# Altium integrated library Resistor - Current Sense.IntLib: 810 symbols (part 8 of 12)
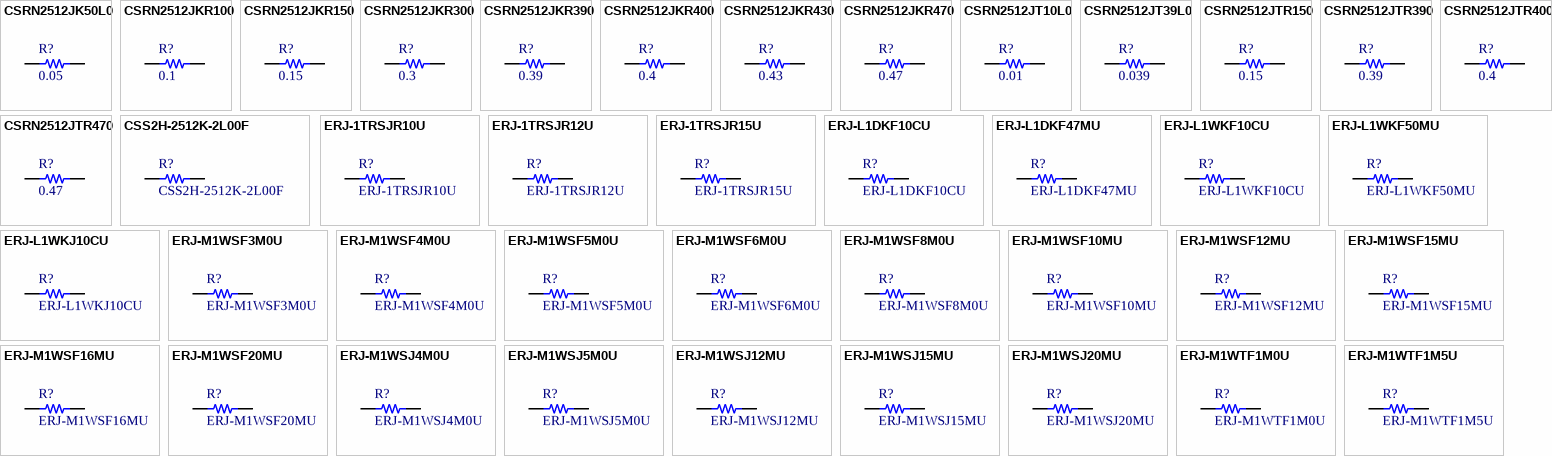
[diagram p27: symbols CSRN2512JK50L0 to ERJ-M1WTF1M5U]

## ERJ-L1DKF10CU
designator R?
RES SMD 0.1 OHM 1% 1/2W 2010; Manufacturer: Panasonic Electronic Components; Value: 0.1; TemperatureRange: -55C ~ 125C; TemperatureCoefficient: 100ppm/C; PowerRating: 0.5W, 1/2W; Part Number: ERJ-L1DKF10CU; PartId: 21562; Supplier 1: Digi-Key; Supplier Part Number 1: P100NCTR-ND; ComponentLink1Description: Datasheet; ComponentLink1URL: https://industrial.panasonic.com/cdbs/www-data/pdf/RDA0000/AOA0000C239.pdf; ComponentLink2Description: Digi-Key Listing; ComponentLink2URL: https://www.digikey.com/product-detail/en/panasonic-electronic-components/ERJ-L1DKF10CU/P100NCTR-ND/469565; Tolerance: 1%; Price: 0.2033; Device Package: 2010 (5025 Metric)
footprint STACKPOLE CSR2010
pins: 1, 2

## ERJ-L1DKF47MU
designator R?
RES SMD 0.047 OHM 1% 1/2W 2010; Manufacturer: Panasonic Electronic Components; Value: 0.047; TemperatureRange: -55C ~ 125C; TemperatureCoefficient: 100ppm/C; PowerRating: 0.5W, 1/2W; Part Number: ERJ-L1DKF47MU; PartId: 21563; Supplier 1: Digi-Key; Supplier Part Number 1: P47NCTR-ND; ComponentLink1Description: Datasheet; ComponentLink1URL: https://industrial.panasonic.com/cdbs/www-data/pdf/RDA0000/AOA0000C239.pdf; ComponentLink2Description: Digi-Key Listing; ComponentLink2URL: https://www.digikey.com/product-detail/en/panasonic-electronic-components/ERJ-L1DKF47MU/P47NCTR-ND/469563; Tolerance: 1%; Price: 0.2033; Device Package: 2010 (5025 Metric)
footprint STACKPOLE CSR2010
pins: 1, 2

## ERJ-L1WKF10CU
designator R?
RES SMD 0.1 OHM 1% 1W 2512; Manufacturer: Panasonic Electronic Components; Value: 0.1; TemperatureRange: -55C ~ 125C; TemperatureCoefficient: 100ppm/C; Part Number: ERJ-L1WKF10CU; PartId: 21441; Supplier 1: Digi-Key; Supplier Part Number 1: P100MTR-ND; ComponentLink1Description: Datasheet; ComponentLink1URL: https://industrial.panasonic.com/cdbs/www-data/pdf/RDA0000/AOA0000C239.pdf; ComponentLink2Description: Digi-Key Listing; ComponentLink2URL: https://www.digikey.com/product-detail/en/panasonic-electronic-components/ERJ-L1WKF10CU/P100MTR-ND/272496; Tolerance: 1%; PowerRating: 1W; Price: 0.2764; Device Package: 2512 (6432 Metric)
footprint STACKPOLE CSR2512
pins: 1, 2

## ERJ-L1WKF50MU
designator R?
RES SMD 0.05 OHM 1% 1W 2512; Manufacturer: Panasonic Electronic Components; Value: 0.05; TemperatureRange: -55C ~ 125C; TemperatureCoefficient: 100ppm/C; Part Number: ERJ-L1WKF50MU; PartId: 21442; Supplier 1: Digi-Key; Supplier Part Number 1: P50MTR-ND; ComponentLink1Description: Datasheet; ComponentLink1URL: https://industrial.panasonic.com/cdbs/www-data/pdf/RDA0000/AOA0000C239.pdf; ComponentLink2Description: Digi-Key Listing; ComponentLink2URL: https://www.digikey.com/product-detail/en/panasonic-electronic-components/ERJ-L1WKF50MU/P50MTR-ND/272495; Tolerance: 1%; PowerRating: 1W; Price: 0.2764; Device Package: 2512 (6432 Metric)
footprint STACKPOLE CSR2512
pins: 1, 2

## ERJ-L1WKJ10CU
designator R?
RES SMD 0.1 OHM 5% 1W 2512; Manufacturer: Panasonic Electronic Components; Value: 0.1; TemperatureRange: -55C ~ 125C; TemperatureCoefficient: 100ppm/C; Part Number: ERJ-L1WKJ10CU; PartId: 21427; Supplier 1: Digi-Key; Supplier Part Number 1: P100TTR-ND; ComponentLink1Description: Datasheet; ComponentLink1URL: https://industrial.panasonic.com/cdbs/www-data/pdf/RDA0000/AOA0000C239.pdf; ComponentLink2Description: Digi-Key Listing; ComponentLink2URL: https://www.digikey.com/product-detail/en/panasonic-electronic-components/ERJ-L1WKJ10CU/P100TTR-ND/272489; Tolerance: 5%; PowerRating: 1W; Price: 0.2362; Device Package: 2512 (6432 Metric)
footprint STACKPOLE CSR2512
pins: 1, 2

## ERJ-M1WSF3M0U
designator R?
RES SMD 0.003 OHM 1% 1W 2512; Manufacturer: Panasonic Electronic Components; Value: 0.003; TemperatureRange: -55C ~ 170C; TemperatureCoefficient: 350ppm/C; Part Number: ERJ-M1WSF3M0U; PartId: 21285; Supplier 1: Digi-Key; Supplier Part Number 1: P3.0MTR-ND; ComponentLink1Description: Datasheet; ComponentLink1URL: http://industrial.panasonic.com/www-cgi/jvcr13pz.cgi?E+PZ+3+AOA0007+ERJM1WSF3M0U+7+WW; ComponentLink2Description: Digi-Key Listing; ComponentLink2URL: https://www.digikey.com/product-detail/en/panasonic-electronic-components/ERJ-M1WSF3M0U/P3.0MTR-ND/300450; Tolerance: 1%; PowerRating: 1W; Price: 0.138; Device Package: 2512 (6432 Metric)
footprint STACKPOLE CSR2512
pins: 1, 2

## ERJ-M1WSF4M0U
designator R?
RES SMD 0.004 OHM 1% 1W 2512; Manufacturer: Panasonic Electronic Components; Value: 0.004; TemperatureRange: -55C ~ 170C; TemperatureCoefficient: 350ppm/C; Part Number: ERJ-M1WSF4M0U; PartId: 21284; Supplier 1: Digi-Key; Supplier Part Number 1: P4.0MTR-ND; ComponentLink1Description: Datasheet; ComponentLink1URL: http://industrial.panasonic.com/www-cgi/jvcr13pz.cgi?E+PZ+3+AOA0007+ERJM1WSF4M0U+7+WW; ComponentLink2Description: Digi-Key Listing; ComponentLink2URL: https://www.digikey.com/product-detail/en/panasonic-electronic-components/ERJ-M1WSF4M0U/P4.0MTR-ND/300451; Tolerance: 1%; PowerRating: 1W; Price: 0.138; Device Package: 2512 (6432 Metric)
footprint STACKPOLE CSR2512
pins: 1, 2

## ERJ-M1WSF5M0U
designator R?
RES SMD 0.005 OHM 1% 1W 2512; Manufacturer: Panasonic Electronic Components; Value: 0.005; TemperatureRange: -55C ~ 170C; TemperatureCoefficient: 100ppm/C; Part Number: ERJ-M1WSF5M0U; PartId: 21280; Supplier 1: Digi-Key; Supplier Part Number 1: P5.0MTR-ND; ComponentLink1Description: Datasheet; ComponentLink1URL: http://industrial.panasonic.com/www-cgi/jvcr13pz.cgi?E+PZ+3+AOA0007+ERJM1WSF5M0U+7+WW; ComponentLink2Description: Digi-Key Listing; ComponentLink2URL: https://www.digikey.com/product-detail/en/panasonic-electronic-components/ERJ-M1WSF5M0U/P5.0MTR-ND/300452; Tolerance: 1%; PowerRating: 1W; Price: 0.138; Device Package: 2512 (6432 Metric)
footprint STACKPOLE CSR2512
pins: 1, 2

## ERJ-M1WSF6M0U
designator R?
RES SMD 0.006 OHM 1% 1W 2512; Manufacturer: Panasonic Electronic Components; Value: 0.006; TemperatureRange: -55C ~ 170C; TemperatureCoefficient: 100ppm/C; Part Number: ERJ-M1WSF6M0U; PartId: 21289; Supplier 1: Digi-Key; Supplier Part Number 1: P6.0MTR-ND; ComponentLink1Description: Datasheet; ComponentLink1URL: http://industrial.panasonic.com/www-cgi/jvcr13pz.cgi?E+PZ+3+AOA0007+ERJM1WSF6M0U+7+WW; ComponentLink2Description: Digi-Key Listing; ComponentLink2URL: https://www.digikey.com/product-detail/en/panasonic-electronic-components/ERJ-M1WSF6M0U/P6.0MTR-ND/966293; Tolerance: 1%; PowerRating: 1W; Price: 0.138; Device Package: 2512 (6432 Metric)
footprint STACKPOLE CSR2512
pins: 1, 2

## ERJ-M1WSF8M0U
designator R?
RES SMD 0.008 OHM 1% 1W 2512; Manufacturer: Panasonic Electronic Components; Value: 0.008; TemperatureRange: -55C ~ 170C; TemperatureCoefficient: 100ppm/C; Part Number: ERJ-M1WSF8M0U; PartId: 21282; Supplier 1: Digi-Key; Supplier Part Number 1: P8.0MTR-ND; ComponentLink1Description: Datasheet; ComponentLink1URL: http://industrial.panasonic.com/cdbs/www-data/pdf/RDA0000/AOA0000CE7.pdf; ComponentLink2Description: Digi-Key Listing; ComponentLink2URL: https://www.digikey.com/product-detail/en/panasonic-electronic-components/ERJ-M1WSF8M0U/P8.0MTR-ND/300453; Tolerance: 1%; PowerRating: 1W; Price: 0.138; Device Package: 2512 (6432 Metric)
footprint STACKPOLE CSR2512
pins: 1, 2

## ERJ-M1WSF10MU
designator R?
RES SMD 0.01 OHM 1% 1W 2512; Manufacturer: Panasonic Electronic Components; Value: 0.01; TemperatureRange: -55C ~ 170C; TemperatureCoefficient: 100ppm/C; Part Number: ERJ-M1WSF10MU; PartId: 21281; Supplier 1: Digi-Key; Supplier Part Number 1: P10MTR-ND; ComponentLink1Description: Datasheet; ComponentLink1URL: http://industrial.panasonic.com/www-cgi/jvcr13pz.cgi?E+PZ+3+AOA0007+ERJM1WSF10MU+7+WW; ComponentLink2Description: Digi-Key Listing; ComponentLink2URL: https://www.digikey.com/product-detail/en/panasonic-electronic-components/ERJ-M1WSF10MU/P10MTR-ND/300454; Tolerance: 1%; PowerRating: 1W; Price: 0.138; Device Package: 2512 (6432 Metric)
footprint STACKPOLE CSR2512
pins: 1, 2

## ERJ-M1WSF12MU
designator R?
RES SMD 0.012 OHM 1% 1W 2512; Manufacturer: Panasonic Electronic Components; Value: 0.012; TemperatureRange: -55C ~ 170C; TemperatureCoefficient: 100ppm/C; Part Number: ERJ-M1WSF12MU; PartId: 21287; Supplier 1: Digi-Key; Supplier Part Number 1: P12MTR-ND; ComponentLink1Description: Datasheet; ComponentLink1URL: http://industrial.panasonic.com/www-cgi/jvcr13pz.cgi?E+PZ+3+AOA0007+ERJM1WSF12MU+7+WW; ComponentLink2Description: Digi-Key Listing; ComponentLink2URL: https://www.digikey.com/product-detail/en/panasonic-electronic-components/ERJ-M1WSF12MU/P12MTR-ND/300455; Tolerance: 1%; PowerRating: 1W; Price: 0.138; Device Package: 2512 (6432 Metric)
footprint STACKPOLE CSR2512
pins: 1, 2

## ERJ-M1WSF15MU
designator R?
RES SMD 0.015 OHM 1% 1W 2512; Manufacturer: Panasonic Electronic Components; Value: 0.015; TemperatureRange: -55C ~ 170C; TemperatureCoefficient: 100ppm/C; Part Number: ERJ-M1WSF15MU; PartId: 21286; Supplier 1: Digi-Key; Supplier Part Number 1: P15MTR-ND; ComponentLink1Description: Datasheet; ComponentLink1URL: http://industrial.panasonic.com/www-cgi/jvcr13pz.cgi?E+PZ+3+AOA0007+ERJM1WSF15MU+7+WW; ComponentLink2Description: Digi-Key Listing; ComponentLink2URL: https://www.digikey.com/product-detail/en/panasonic-electronic-components/ERJ-M1WSF15MU/P15MTR-ND/300456; Tolerance: 1%; PowerRating: 1W; Price: 0.138; Device Package: 2512 (6432 Metric)
footprint STACKPOLE CSR2512
pins: 1, 2

## ERJ-M1WSF16MU
designator R?
RES SMD 0.016 OHM 1% 1W 2512; Manufacturer: Panasonic Electronic Components; Value: 0.016; TemperatureRange: -55C ~ 170C; TemperatureCoefficient: 100ppm/C; Part Number: ERJ-M1WSF16MU; PartId: 21288; Supplier 1: Digi-Key; Supplier Part Number 1: P16MTR-ND; ComponentLink1Description: Datasheet; ComponentLink1URL: http://industrial.panasonic.com/cdbs/www-data/pdf/RDA0000/AOA0000CE7.pdf; ComponentLink2Description: Digi-Key Listing; ComponentLink2URL: https://www.digikey.com/product-detail/en/panasonic-electronic-components/ERJ-M1WSF16MU/P16MTR-ND/300457; Tolerance: 1%; PowerRating: 1W; Price: 0.138; Device Package: 2512 (6432 Metric)
footprint STACKPOLE CSR2512
pins: 1, 2

## ERJ-M1WSF20MU
designator R?
RES SMD 0.02 OHM 1% 1W 2512; Manufacturer: Panasonic Electronic Components; Value: 0.02; TemperatureRange: -55C ~ 170C; TemperatureCoefficient: 100ppm/C; Part Number: ERJ-M1WSF20MU; PartId: 21283; Supplier 1: Digi-Key; Supplier Part Number 1: P20MTR-ND; ComponentLink1Description: Datasheet; ComponentLink1URL: http://industrial.panasonic.com/www-cgi/jvcr13pz.cgi?E+PZ+3+AOA0007+ERJM1WSF20MU+7+WW; ComponentLink2Description: Digi-Key Listing; ComponentLink2URL: https://www.digikey.com/product-detail/en/panasonic-electronic-components/ERJ-M1WSF20MU/P20MTR-ND/300458; Tolerance: 1%; PowerRating: 1W; Price: 0.138; Device Package: 2512 (6432 Metric)
footprint STACKPOLE CSR2512
pins: 1, 2

## ERJ-M1WSJ4M0U
designator R?
RES SMD 0.004 OHM 5% 1W 2512; Manufacturer: Panasonic Electronic Components; Value: 0.004; TemperatureRange: -55C ~ 170C; TemperatureCoefficient: 350ppm/C; Part Number: ERJ-M1WSJ4M0U; PartId: 21413; Supplier 1: Digi-Key; Supplier Part Number 1: P4.0TTR-ND; ComponentLink1Description: Datasheet; ComponentLink1URL: http://industrial.panasonic.com/www-cgi/jvcr13pz.cgi?E+PZ+3+AOA0007+ERJM1WSJ4M0U+7+WW; ComponentLink2Description: Digi-Key Listing; ComponentLink2URL: https://www.digikey.com/product-detail/en/panasonic-electronic-components/ERJ-M1WSJ4M0U/P4.0TTR-ND/300442; Tolerance: 5%; PowerRating: 1W; Price: 0.2104; Device Package: 2512 (6432 Metric)
footprint STACKPOLE CSR2512
pins: 1, 2

## ERJ-M1WSJ5M0U
designator R?
RES SMD 0.005 OHM 5% 1W 2512; Manufacturer: Panasonic Electronic Components; Value: 0.005; TemperatureRange: -55C ~ 170C; TemperatureCoefficient: 100ppm/C; Part Number: ERJ-M1WSJ5M0U; PartId: 21414; Supplier 1: Digi-Key; Supplier Part Number 1: P5.0TTR-ND; ComponentLink1Description: Datasheet; ComponentLink1URL: http://industrial.panasonic.com/www-cgi/jvcr13pz.cgi?E+PZ+3+AOA0007+ERJM1WSJ5M0U+7+WW; ComponentLink2Description: Digi-Key Listing; ComponentLink2URL: https://www.digikey.com/product-detail/en/panasonic-electronic-components/ERJ-M1WSJ5M0U/P5.0TTR-ND/300443; Tolerance: 5%; PowerRating: 1W; Price: 0.2104; Device Package: 2512 (6432 Metric)
footprint STACKPOLE CSR2512
pins: 1, 2

## ERJ-M1WSJ12MU
designator R?
RES SMD 0.012 OHM 5% 1W 2512; Manufacturer: Panasonic Electronic Components; Value: 0.012; TemperatureRange: -55C ~ 170C; TemperatureCoefficient: 100ppm/C; Part Number: ERJ-M1WSJ12MU; PartId: 21417; Supplier 1: Digi-Key; Supplier Part Number 1: P12TTR-ND; ComponentLink1Description: Datasheet; ComponentLink1URL: http://industrial.panasonic.com/cdbs/www-data/pdf/RDA0000/AOA0000CE7.pdf; ComponentLink2Description: Digi-Key Listing; ComponentLink2URL: https://www.digikey.com/product-detail/en/panasonic-electronic-components/ERJ-M1WSJ12MU/P12TTR-ND/300446; Tolerance: 5%; PowerRating: 1W; Price: 0.2174; Device Package: 2512 (6432 Metric)
footprint STACKPOLE CSR2512
pins: 1, 2

## ERJ-M1WSJ15MU
designator R?
RES SMD 0.015 OHM 5% 1W 2512; Manufacturer: Panasonic Electronic Components; Value: 0.015; TemperatureRange: -55C ~ 170C; TemperatureCoefficient: 100ppm/C; Part Number: ERJ-M1WSJ15MU; PartId: 21426; Supplier 1: Digi-Key; Supplier Part Number 1: P15TTR-ND; ComponentLink1Description: Datasheet; ComponentLink1URL: http://industrial.panasonic.com/www-cgi/jvcr13pz.cgi?E+PZ+3+AOA0007+ERJM1WSJ15MU+7+WW; ComponentLink2Description: Digi-Key Listing; ComponentLink2URL: https://www.digikey.com/product-detail/en/panasonic-electronic-components/ERJ-M1WSJ15MU/P15TTR-ND/300447; Tolerance: 5%; PowerRating: 1W; Price: 0.2324; Device Package: 2512 (6432 Metric)
footprint STACKPOLE CSR2512
pins: 1, 2

## ERJ-M1WSJ20MU
designator R?
RES SMD 0.02 OHM 5% 1W 2512; Manufacturer: Panasonic Electronic Components; Value: 0.02; TemperatureRange: -55C ~ 170C; TemperatureCoefficient: 100ppm/C; Part Number: ERJ-M1WSJ20MU; PartId: 21425; Supplier 1: Digi-Key; Supplier Part Number 1: P20TTR-ND; ComponentLink1Description: Datasheet; ComponentLink1URL: http://industrial.panasonic.com/www-cgi/jvcr13pz.cgi?E+PZ+3+AOA0007+ERJM1WSJ20MU+7+WW; ComponentLink2Description: Digi-Key Listing; ComponentLink2URL: https://www.digikey.com/product-detail/en/panasonic-electronic-components/ERJ-M1WSJ20MU/P20TTR-ND/300449; Tolerance: 5%; PowerRating: 1W; Price: 0.2324; Device Package: 2512 (6432 Metric)
footprint STACKPOLE CSR2512
pins: 1, 2

## ERJ-M1WTF1M0U
designator R?
RES SMD 0.001 OHM 1% 1W 2512; Manufacturer: Panasonic Electronic Components; Value: 0.001; TemperatureRange: -55C ~ 170C; TemperatureCoefficient: 250/ +450ppm/C; Part Number: ERJ-M1WTF1M0U; PartId: 21311; Supplier 1: Digi-Key; Supplier Part Number 1: P1.0NDTR-ND; ComponentLink1Description: Datasheet; ComponentLink1URL: http://industrial.panasonic.com/www-cgi/jvcr13pz.cgi?E+PZ+3+AOA0007+ERJM1WTF1M0U+7+WW; ComponentLink2Description: Digi-Key Listing; ComponentLink2URL: https://www.digikey.com/product-detail/en/panasonic-electronic-components/ERJ-M1WTF1M0U/P1.0NDTR-ND/671816; Tolerance: 1%; PowerRating: 1W; Price: 0.1586; Device Package: 2512 (6432 Metric)
footprint STACKPOLE CSR2512
pins: 1, 2

## ERJ-M1WTF1M5U
designator R?
RES SMD 0.0015 OHM 1% 1W 2512; Manufacturer: Panasonic Electronic Components; Value: 0.0015; TemperatureRange: -55C ~ 170C; TemperatureCoefficient: 250/ +450ppm/C; Part Number: ERJ-M1WTF1M5U; PartId: 21313; Supplier 1: Digi-Key; Supplier Part Number 1: P1.5NDTR-ND; ComponentLink1Description: Datasheet; ComponentLink1URL: http://industrial.panasonic.com/cdbs/www-data/pdf/RDA0000/AOA0000CE7.pdf; ComponentLink2Description: Digi-Key Listing; ComponentLink2URL: https://www.digikey.com/product-detail/en/panasonic-electronic-components/ERJ-M1WTF1M5U/P1.5NDTR-ND/671817; Tolerance: 1%; PowerRating: 1W; Price: 0.1586; Device Package: 2512 (6432 Metric)
footprint STACKPOLE CSR2512
pins: 1, 2

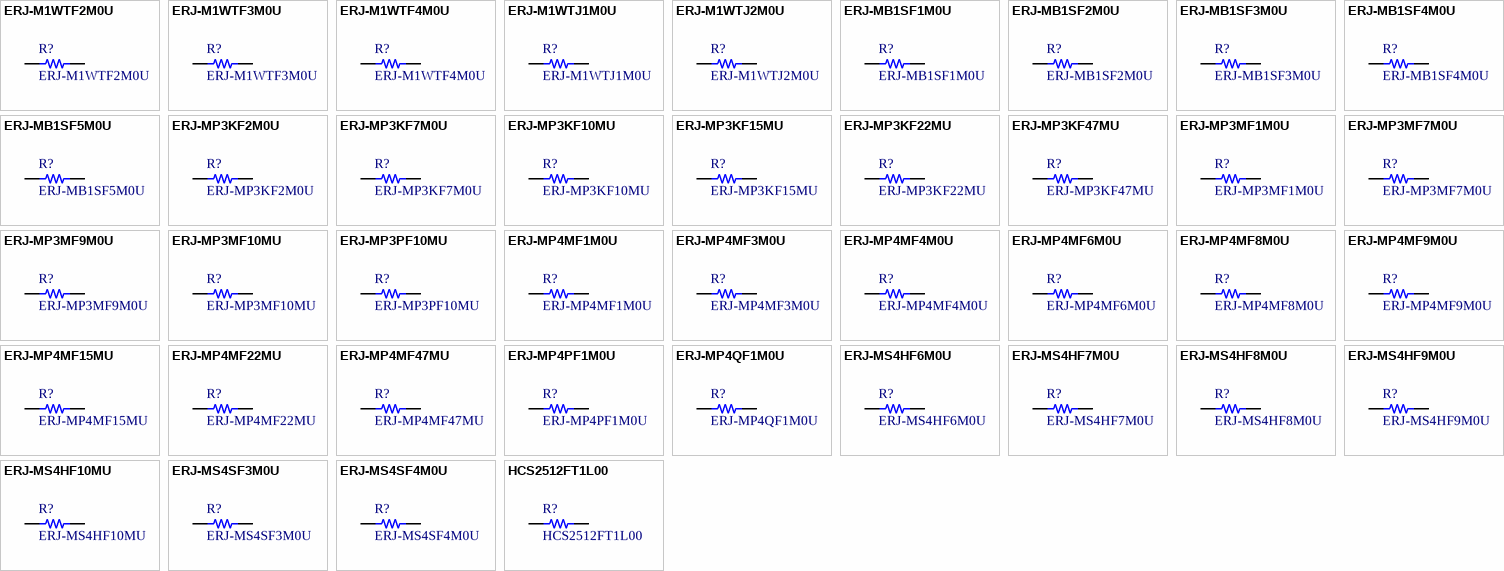
[diagram p13: symbols ERJ-M1WTF2M0U to HCS2512FT1L00]

## ERJ-M1WTF2M0U
designator R?
RES SMD 0.002 OHM 1% 1W 2512; Manufacturer: Panasonic Electronic Components; Value: 0.002; TemperatureRange: -55C ~ 170C; TemperatureCoefficient: 50/ +150ppm/C; Part Number: ERJ-M1WTF2M0U; PartId: 21310; Supplier 1: Digi-Key; Supplier Part Number 1: P2.0NDTR-ND; ComponentLink1Description: Datasheet; ComponentLink1URL: http://industrial.panasonic.com/cdbs/www-data/pdf/RDA0000/AOA0000CE7.pdf; ComponentLink2Description: Digi-Key Listing; ComponentLink2URL: https://www.digikey.com/product-detail/en/panasonic-electronic-components/ERJ-M1WTF2M0U/P2.0NDTR-ND/671818; Tolerance: 1%; PowerRating: 1W; Price: 0.1586; Device Package: 2512 (6432 Metric)
footprint STACKPOLE CSR2512
pins: 1, 2

## ERJ-M1WTF3M0U
designator R?
RES SMD 0.003 OHM 1% 1W 2512; Manufacturer: Panasonic Electronic Components; Value: 0.003; TemperatureRange: -55C ~ 170C; TemperatureCoefficient: 50/ +150ppm/C; Part Number: ERJ-M1WTF3M0U; PartId: 21312; Supplier 1: Digi-Key; Supplier Part Number 1: P3.0NDTR-ND; ComponentLink1Description: Datasheet; ComponentLink1URL: http://industrial.panasonic.com/www-cgi/jvcr13pz.cgi?E+PZ+3+AOA0007+ERJM1WTF3M0U+7+WW; ComponentLink2Description: Digi-Key Listing; ComponentLink2URL: https://www.digikey.com/product-detail/en/panasonic-electronic-components/ERJ-M1WTF3M0U/P3.0NDTR-ND/671819; Tolerance: 1%; PowerRating: 1W; Price: 0.1586; Device Package: 2512 (6432 Metric)
footprint STACKPOLE CSR2512
pins: 1, 2

## ERJ-M1WTF4M0U
designator R?
RES SMD 0.004 OHM 1% 1W 2512; Manufacturer: Panasonic Electronic Components; Value: 0.004; TemperatureRange: -55C ~ 170C; TemperatureCoefficient: 50/ +150ppm/C; Part Number: ERJ-M1WTF4M0U; PartId: 21314; Supplier 1: Digi-Key; Supplier Part Number 1: P4.0NDTR-ND; ComponentLink1Description: Datasheet; ComponentLink1URL: http://industrial.panasonic.com/www-cgi/jvcr13pz.cgi?E+PZ+3+AOA0007+ERJM1WTF4M0U+7+WW; ComponentLink2Description: Digi-Key Listing; ComponentLink2URL: https://www.digikey.com/product-detail/en/panasonic-electronic-components/ERJ-M1WTF4M0U/P4.0NDTR-ND/671820; Tolerance: 1%; PowerRating: 1W; Price: 0.1586; Device Package: 2512 (6432 Metric)
footprint STACKPOLE CSR2512
pins: 1, 2

## ERJ-M1WTJ1M0U
designator R?
RES SMD 0.001 OHM 5% 1W 2512; Manufacturer: Panasonic Electronic Components; Value: 0.001; TemperatureRange: -55C ~ 170C; TemperatureCoefficient: 250/ +450ppm/C; Part Number: ERJ-M1WTJ1M0U; PartId: 21423; Supplier 1: Digi-Key; Supplier Part Number 1: P1.0TTR-ND; ComponentLink1Description: Datasheet; ComponentLink1URL: http://industrial.panasonic.com/www-cgi/jvcr13pz.cgi?E+PZ+3+AOA0007+ERJM1WTJ1M0U+7+WW; ComponentLink2Description: Digi-Key Listing; ComponentLink2URL: https://www.digikey.com/product-detail/en/panasonic-electronic-components/ERJ-M1WTJ1M0U/P1.0TTR-ND/385402; Tolerance: 5%; PowerRating: 1W; Price: 0.2274; Device Package: 2512 (6432 Metric)
footprint STACKPOLE CSR2512
pins: 1, 2

## ERJ-M1WTJ2M0U
designator R?
RES SMD 0.002 OHM 5% 1W 2512; Manufacturer: Panasonic Electronic Components; Value: 0.002; TemperatureRange: -55C ~ 170C; TemperatureCoefficient: 50/ +150ppm/C; Part Number: ERJ-M1WTJ2M0U; PartId: 21424; Supplier 1: Digi-Key; Supplier Part Number 1: P2.0TTR-ND; ComponentLink1Description: Datasheet; ComponentLink1URL: http://industrial.panasonic.com/www-cgi/jvcr13pz.cgi?E+PZ+3+AOA0007+ERJM1WTJ2M0U+7+WW; ComponentLink2Description: Digi-Key Listing; ComponentLink2URL: https://www.digikey.com/product-detail/en/panasonic-electronic-components/ERJ-M1WTJ2M0U/P2.0TTR-ND/300440; Tolerance: 5%; PowerRating: 1W; Price: 0.2274; Device Package: 2512 (6432 Metric)
footprint STACKPOLE CSR2512
pins: 1, 2

## ERJ-MB1SF1M0U
designator R?
RES SMD 0.001 OHM 2W 2010 WIDE; Manufacturer: Panasonic Electronic Components; Value: 0.001; TemperatureRange: -65C ~ 170C; TemperatureCoefficient: 75ppm/C; Tolerance: 1%; Part Number: ERJ-MB1SF1M0U; PartId: 21551; Supplier 1: Digi-Key; Supplier Part Number 1: P19791TR-ND; ComponentLink1Description: Datasheet; ComponentLink1URL: https://industrial.panasonic.com/cdbs/www-data/pdf/RDA0000/AOA0000C266.pdf; ComponentLink2Description: Digi-Key Listing; ComponentLink2URL: https://www.digikey.com/product-detail/en/panasonic-electronic-components/ERJ-MB1SF1M0U/P19791TR-ND/6154439; PowerRating: 2W; Price: 0.1911; Device Package: Wide 2010 (5025 Metric), 1020
footprint STACKPOLE CSR2010
pins: 1, 2

## ERJ-MB1SF2M0U
designator R?
RES SMD 0.002 OHM 2W 2010 WIDE; Manufacturer: Panasonic Electronic Components; Value: 0.002; TemperatureRange: -65C ~ 170C; TemperatureCoefficient: 75ppm/C; Tolerance: 1%; Part Number: ERJ-MB1SF2M0U; PartId: 21552; Supplier 1: Digi-Key; Supplier Part Number 1: P19792TR-ND; ComponentLink1Description: Datasheet; ComponentLink1URL: https://industrial.panasonic.com/cdbs/www-data/pdf/RDA0000/AOA0000C266.pdf; ComponentLink2Description: Digi-Key Listing; ComponentLink2URL: https://www.digikey.com/product-detail/en/panasonic-electronic-components/ERJ-MB1SF2M0U/P19792TR-ND/6154440; PowerRating: 2W; Price: 0.1911; Device Package: Wide 2010 (5025 Metric), 1020
footprint STACKPOLE CSR2010
pins: 1, 2

## ERJ-MB1SF3M0U
designator R?
RES SMD 0.003 OHM 2W 2010 WIDE; Manufacturer: Panasonic Electronic Components; Value: 0.003; TemperatureRange: -65C ~ 170C; TemperatureCoefficient: 75ppm/C; Tolerance: 1%; Part Number: ERJ-MB1SF3M0U; PartId: 21553; Supplier 1: Digi-Key; Supplier Part Number 1: P19793TR-ND; ComponentLink1Description: Datasheet; ComponentLink1URL: https://industrial.panasonic.com/cdbs/www-data/pdf/RDA0000/AOA0000C266.pdf; ComponentLink2Description: Digi-Key Listing; ComponentLink2URL: https://www.digikey.com/product-detail/en/panasonic-electronic-components/ERJ-MB1SF3M0U/P19793TR-ND/6154441; PowerRating: 2W; Price: 0.1911; Device Package: Wide 2010 (5025 Metric), 1020
footprint STACKPOLE CSR2010
pins: 1, 2

## ERJ-MB1SF4M0U
designator R?
RES SMD 0.004 OHM 2W 2010 WIDE; Manufacturer: Panasonic Electronic Components; Value: 0.004; TemperatureRange: -65C ~ 170C; TemperatureCoefficient: 75ppm/C; Tolerance: 1%; Part Number: ERJ-MB1SF4M0U; PartId: 21554; Supplier 1: Digi-Key; Supplier Part Number 1: P19794TR-ND; ComponentLink1Description: Datasheet; ComponentLink1URL: https://industrial.panasonic.com/cdbs/www-data/pdf/RDA0000/AOA0000C266.pdf; ComponentLink2Description: Digi-Key Listing; ComponentLink2URL: https://www.digikey.com/product-detail/en/panasonic-electronic-components/ERJ-MB1SF4M0U/P19794TR-ND/6154442; PowerRating: 2W; Price: 0.1911; Device Package: Wide 2010 (5025 Metric), 1020
footprint STACKPOLE CSR2010
pins: 1, 2

## ERJ-MB1SF5M0U
designator R?
RES SMD 0.005 OHM 2W 2010 WIDE; Manufacturer: Panasonic Electronic Components; Value: 0.005; TemperatureRange: -65C ~ 170C; TemperatureCoefficient: 75ppm/C; Tolerance: 1%; Part Number: ERJ-MB1SF5M0U; PartId: 21555; Supplier 1: Digi-Key; Supplier Part Number 1: P19795TR-ND; ComponentLink1Description: Datasheet; ComponentLink1URL: https://industrial.panasonic.com/cdbs/www-data/pdf/RDA0000/AOA0000C266.pdf; ComponentLink2Description: Digi-Key Listing; ComponentLink2URL: https://www.digikey.com/product-detail/en/panasonic-electronic-components/ERJ-MB1SF5M0U/P19795TR-ND/6154443; PowerRating: 2W; Price: 0.1911; Device Package: Wide 2010 (5025 Metric), 1020
footprint STACKPOLE CSR2010
pins: 1, 2

## ERJ-MP3KF2M0U
designator R?
RES SMD 0.002 OHM 1% 1/2W 2010; Manufacturer: Panasonic Electronic Components; Value: 0.002; TemperatureRange: -65C ~ 170C; TemperatureCoefficient: 75ppm/C; PowerRating: 0.5W, 1/2W; Part Number: ERJ-MP3KF2M0U; PartId: 21524; Supplier 1: Digi-Key; Supplier Part Number 1: P19354TR-ND; ComponentLink1Description: Datasheet; ComponentLink1URL: https://industrial.panasonic.com/cdbs/www-data/pdf/RDA0000/AOA0000C263.pdf; ComponentLink2Description: Digi-Key Listing; ComponentLink2URL: https://www.digikey.com/product-detail/en/panasonic-electronic-components/ERJ-MP3KF2M0U/P19354TR-ND/6096683; Tolerance: 1%; Price: 0.1001; Device Package: 2010 (5025 Metric)
footprint STACKPOLE CSR2010
pins: 1, 2

## ERJ-MP3KF7M0U
designator R?
RES SMD 0.007 OHM 1% 1/2W 2010; Manufacturer: Panasonic Electronic Components; Value: 0.007; TemperatureRange: -65C ~ 170C; TemperatureCoefficient: 75ppm/C; PowerRating: 0.5W, 1/2W; Part Number: ERJ-MP3KF7M0U; PartId: 21526; Supplier 1: Digi-Key; Supplier Part Number 1: P19362TR-ND; ComponentLink1Description: Datasheet; ComponentLink1URL: https://industrial.panasonic.com/cdbs/www-data/pdf/RDA0000/AOA0000C263.pdf; ComponentLink2Description: Digi-Key Listing; ComponentLink2URL: https://www.digikey.com/product-detail/en/panasonic-electronic-components/ERJ-MP3KF7M0U/P19362TR-ND/6096691; Tolerance: 1%; Price: 0.1001; Device Package: 2010 (5025 Metric)
footprint STACKPOLE CSR2010
pins: 1, 2

## ERJ-MP3KF10MU
designator R?
RES SMD 0.01 OHM 1% 1/2W 2010; Manufacturer: Panasonic Electronic Components; Value: 0.01; TemperatureRange: -65C ~ 170C; TemperatureCoefficient: 75ppm/C; PowerRating: 0.5W, 1/2W; Part Number: ERJ-MP3KF10MU; PartId: 21521; Supplier 1: Digi-Key; Supplier Part Number 1: P19350TR-ND; ComponentLink1Description: Datasheet; ComponentLink1URL: https://industrial.panasonic.com/cdbs/www-data/pdf/RDA0000/AOA0000C263.pdf; ComponentLink2Description: Digi-Key Listing; ComponentLink2URL: https://www.digikey.com/product-detail/en/panasonic-electronic-components/ERJ-MP3KF10MU/P19350TR-ND/6096679; Tolerance: 1%; Price: 0.1001; Device Package: 2010 (5025 Metric)
footprint STACKPOLE CSR2010
pins: 1, 2

## ERJ-MP3KF15MU
designator R?
RES SMD 0.015 OHM 1% 1/2W 2010; Manufacturer: Panasonic Electronic Components; Value: 0.015; TemperatureRange: -65C ~ 170C; TemperatureCoefficient: 75ppm/C; PowerRating: 0.5W, 1/2W; Part Number: ERJ-MP3KF15MU; PartId: 21522; Supplier 1: Digi-Key; Supplier Part Number 1: P19351TR-ND; ComponentLink1Description: Datasheet; ComponentLink1URL: https://industrial.panasonic.com/cdbs/www-data/pdf/RDA0000/AOA0000C263.pdf; ComponentLink2Description: Digi-Key Listing; ComponentLink2URL: https://www.digikey.com/product-detail/en/panasonic-electronic-components/ERJ-MP3KF15MU/P19351TR-ND/6096680; Tolerance: 1%; Price: 0.1001; Device Package: 2010 (5025 Metric)
footprint STACKPOLE CSR2010
pins: 1, 2

## ERJ-MP3KF22MU
designator R?
RES SMD 0.022 OHM 1% 1/2W 2010; Manufacturer: Panasonic Electronic Components; Value: 0.022; TemperatureRange: -65C ~ 170C; TemperatureCoefficient: 75ppm/C; PowerRating: 0.5W, 1/2W; Part Number: ERJ-MP3KF22MU; PartId: 21523; Supplier 1: Digi-Key; Supplier Part Number 1: P19353TR-ND; ComponentLink1Description: Datasheet; ComponentLink1URL: https://industrial.panasonic.com/cdbs/www-data/pdf/RDA0000/AOA0000C263.pdf; ComponentLink2Description: Digi-Key Listing; ComponentLink2URL: https://www.digikey.com/product-detail/en/panasonic-electronic-components/ERJ-MP3KF22MU/P19353TR-ND/6096682; Tolerance: 1%; Price: 0.1001; Device Package: 2010 (5025 Metric)
footprint STACKPOLE CSR2010
pins: 1, 2

## ERJ-MP3KF47MU
designator R?
RES SMD 0.047 OHM 1% 1/2W 2010; Manufacturer: Panasonic Electronic Components; Value: 0.047; TemperatureRange: -65C ~ 170C; TemperatureCoefficient: 75ppm/C; PowerRating: 0.5W, 1/2W; Part Number: ERJ-MP3KF47MU; PartId: 21525; Supplier 1: Digi-Key; Supplier Part Number 1: P19357TR-ND; ComponentLink1Description: Datasheet; ComponentLink1URL: https://industrial.panasonic.com/cdbs/www-data/pdf/RDA0000/AOA0000C263.pdf; ComponentLink2Description: Digi-Key Listing; ComponentLink2URL: https://www.digikey.com/product-detail/en/panasonic-electronic-components/ERJ-MP3KF47MU/P19357TR-ND/6096686; Tolerance: 1%; Price: 0.1001; Device Package: 2010 (5025 Metric)
footprint STACKPOLE CSR2010
pins: 1, 2

## ERJ-MP3MF1M0U
designator R?
RES SMD 0.001 OHM 1% 1W 2010; Manufacturer: Panasonic Electronic Components; Value: 0.001; TemperatureRange: -65C ~ 170C; TemperatureCoefficient: 75ppm/C; Part Number: ERJ-MP3MF1M0U; PartId: 21528; Supplier 1: Digi-Key; Supplier Part Number 1: P19367TR-ND; ComponentLink1Description: Datasheet; ComponentLink1URL: https://industrial.panasonic.com/cdbs/www-data/pdf/RDA0000/AOA0000C263.pdf; ComponentLink2Description: Digi-Key Listing; ComponentLink2URL: https://www.digikey.com/product-detail/en/panasonic-electronic-components/ERJ-MP3MF1M0U/P19367TR-ND/6096696; Tolerance: 1%; PowerRating: 1W; Price: 0.1067; Device Package: 2010 (5025 Metric)
footprint STACKPOLE CSR2010
pins: 1, 2

## ERJ-MP3MF7M0U
designator R?
RES SMD 0.007 OHM 1% 1W 2010; Manufacturer: Panasonic Electronic Components; Value: 0.007; TemperatureRange: -65C ~ 170C; TemperatureCoefficient: 75ppm/C; Part Number: ERJ-MP3MF7M0U; PartId: 21529; Supplier 1: Digi-Key; Supplier Part Number 1: P19375TR-ND; ComponentLink1Description: Datasheet; ComponentLink1URL: https://industrial.panasonic.com/cdbs/www-data/pdf/RDA0000/AOA0000C263.pdf; ComponentLink2Description: Digi-Key Listing; ComponentLink2URL: https://www.digikey.com/product-detail/en/panasonic-electronic-components/ERJ-MP3MF7M0U/P19375TR-ND/6096704; Tolerance: 1%; PowerRating: 1W; Price: 0.1067; Device Package: 2010 (5025 Metric)
footprint STACKPOLE CSR2010
pins: 1, 2

## ERJ-MP3MF9M0U
designator R?
RES SMD 0.009 OHM 1% 1W 2010; Manufacturer: Panasonic Electronic Components; Value: 0.009; TemperatureRange: -65C ~ 170C; TemperatureCoefficient: 75ppm/C; Part Number: ERJ-MP3MF9M0U; PartId: 21530; Supplier 1: Digi-Key; Supplier Part Number 1: P19377TR-ND; ComponentLink1Description: Datasheet; ComponentLink1URL: https://industrial.panasonic.com/cdbs/www-data/pdf/RDA0000/AOA0000C263.pdf; ComponentLink2Description: Digi-Key Listing; ComponentLink2URL: https://www.digikey.com/product-detail/en/panasonic-electronic-components/ERJ-MP3MF9M0U/P19377TR-ND/6096706; Tolerance: 1%; PowerRating: 1W; Price: 0.1067; Device Package: 2010 (5025 Metric)
footprint STACKPOLE CSR2010
pins: 1, 2

## ERJ-MP3MF10MU
designator R?
RES SMD 0.01 OHM 1% 1W 2010; Manufacturer: Panasonic Electronic Components; Value: 0.01; TemperatureRange: -65C ~ 170C; TemperatureCoefficient: 75ppm/C; Part Number: ERJ-MP3MF10MU; PartId: 21527; Supplier 1: Digi-Key; Supplier Part Number 1: P19365TR-ND; ComponentLink1Description: Datasheet; ComponentLink1URL: https://industrial.panasonic.com/cdbs/www-data/pdf/RDA0000/AOA0000C263.pdf; ComponentLink2Description: Digi-Key Listing; ComponentLink2URL: https://www.digikey.com/product-detail/en/panasonic-electronic-components/ERJ-MP3MF10MU/P19365TR-ND/6096694; Tolerance: 1%; PowerRating: 1W; Price: 0.1067; Device Package: 2010 (5025 Metric)
footprint STACKPOLE CSR2010
pins: 1, 2

## ERJ-MP3PF10MU
designator R?
RES SMD 0.01 OHM 1% 2W 2010; Manufacturer: Panasonic Electronic Components; Value: 0.01; TemperatureRange: -65C ~ 170C; TemperatureCoefficient: 75ppm/C; Part Number: ERJ-MP3PF10MU; PartId: 21531; Supplier 1: Digi-Key; Supplier Part Number 1: P19378TR-ND; ComponentLink1Description: Datasheet; ComponentLink1URL: https://industrial.panasonic.com/cdbs/www-data/pdf/RDA0000/AOA0000C263.pdf; ComponentLink2Description: Digi-Key Listing; ComponentLink2URL: https://www.digikey.com/product-detail/en/panasonic-electronic-components/ERJ-MP3PF10MU/P19378TR-ND/6096707; Tolerance: 1%; PowerRating: 2W; Price: 0.1201; Device Package: 2010 (5025 Metric)
footprint STACKPOLE CSR2010
pins: 1, 2

## ERJ-MP4MF1M0U
designator R?
RES SMD 0.001 OHM 1% 1W 2512; Manufacturer: Panasonic Electronic Components; Value: 0.001; TemperatureRange: -65C ~ 170C; TemperatureCoefficient: 75ppm/C; Part Number: ERJ-MP4MF1M0U; PartId: 21254; Supplier 1: Digi-Key; Supplier Part Number 1: P19390TR-ND; ComponentLink1Description: Datasheet; ComponentLink1URL: https://industrial.panasonic.com/cdbs/www-data/pdf/RDA0000/AOA0000C263.pdf; ComponentLink2Description: Digi-Key Listing; ComponentLink2URL: https://www.digikey.com/product-detail/en/panasonic-electronic-components/ERJ-MP4MF1M0U/P19390TR-ND/6096719; Tolerance: 1%; PowerRating: 1W; Price: 0.1201; Device Package: 2512 (6432 Metric)
footprint STACKPOLE CSR2512
pins: 1, 2

## ERJ-MP4MF3M0U
designator R?
RES SMD 0.003 OHM 1% 1W 2512; Manufacturer: Panasonic Electronic Components; Value: 0.003; TemperatureRange: -65C ~ 170C; TemperatureCoefficient: 75ppm/C; Part Number: ERJ-MP4MF3M0U; PartId: 21256; Supplier 1: Digi-Key; Supplier Part Number 1: P19394TR-ND; ComponentLink1Description: Datasheet; ComponentLink1URL: https://industrial.panasonic.com/cdbs/www-data/pdf/RDA0000/AOA0000C263.pdf; ComponentLink2Description: Digi-Key Listing; ComponentLink2URL: https://www.digikey.com/product-detail/en/panasonic-electronic-components/ERJ-MP4MF3M0U/P19394TR-ND/6096723; Tolerance: 1%; PowerRating: 1W; Price: 0.1201; Device Package: 2512 (6432 Metric)
footprint STACKPOLE CSR2512
pins: 1, 2

## ERJ-MP4MF4M0U
designator R?
RES SMD 0.004 OHM 1% 1W 2512; Manufacturer: Panasonic Electronic Components; Value: 0.004; TemperatureRange: -65C ~ 170C; TemperatureCoefficient: 75ppm/C; Part Number: ERJ-MP4MF4M0U; PartId: 21258; Supplier 1: Digi-Key; Supplier Part Number 1: P19396TR-ND; ComponentLink1Description: Datasheet; ComponentLink1URL: https://industrial.panasonic.com/cdbs/www-data/pdf/RDA0000/AOA0000C263.pdf; ComponentLink2Description: Digi-Key Listing; ComponentLink2URL: https://www.digikey.com/product-detail/en/panasonic-electronic-components/ERJ-MP4MF4M0U/P19396TR-ND/6096725; Tolerance: 1%; PowerRating: 1W; Price: 0.1201; Device Package: 2512 (6432 Metric)
footprint STACKPOLE CSR2512
pins: 1, 2

## ERJ-MP4MF6M0U
designator R?
RES SMD 0.006 OHM 1% 1W 2512; Manufacturer: Panasonic Electronic Components; Value: 0.006; TemperatureRange: -65C ~ 170C; TemperatureCoefficient: 75ppm/C; Part Number: ERJ-MP4MF6M0U; PartId: 21259; Supplier 1: Digi-Key; Supplier Part Number 1: P19399TR-ND; ComponentLink1Description: Datasheet; ComponentLink1URL: https://industrial.panasonic.com/cdbs/www-data/pdf/RDA0000/AOA0000C263.pdf; ComponentLink2Description: Digi-Key Listing; ComponentLink2URL: https://www.digikey.com/product-detail/en/panasonic-electronic-components/ERJ-MP4MF6M0U/P19399TR-ND/6096728; Tolerance: 1%; PowerRating: 1W; Price: 0.1201; Device Package: 2512 (6432 Metric)
footprint STACKPOLE CSR2512
pins: 1, 2

## ERJ-MP4MF8M0U
designator R?
RES SMD 0.008 OHM 1% 1W 2512; Manufacturer: Panasonic Electronic Components; Value: 0.008; TemperatureRange: -65C ~ 170C; TemperatureCoefficient: 75ppm/C; Part Number: ERJ-MP4MF8M0U; PartId: 21260; Supplier 1: Digi-Key; Supplier Part Number 1: P19401TR-ND; ComponentLink1Description: Datasheet; ComponentLink1URL: https://industrial.panasonic.com/cdbs/www-data/pdf/RDA0000/AOA0000C263.pdf; ComponentLink2Description: Digi-Key Listing; ComponentLink2URL: https://www.digikey.com/product-detail/en/panasonic-electronic-components/ERJ-MP4MF8M0U/P19401TR-ND/6096730; Tolerance: 1%; PowerRating: 1W; Price: 0.1201; Device Package: 2512 (6432 Metric)
footprint STACKPOLE CSR2512
pins: 1, 2

## ERJ-MP4MF9M0U
designator R?
RES SMD 0.009 OHM 1% 1W 2512; Manufacturer: Panasonic Electronic Components; Value: 0.009; TemperatureRange: -65C ~ 170C; TemperatureCoefficient: 75ppm/C; Part Number: ERJ-MP4MF9M0U; PartId: 21261; Supplier 1: Digi-Key; Supplier Part Number 1: P19402TR-ND; ComponentLink1Description: Datasheet; ComponentLink1URL: https://industrial.panasonic.com/cdbs/www-data/pdf/RDA0000/AOA0000C263.pdf; ComponentLink2Description: Digi-Key Listing; ComponentLink2URL: https://www.digikey.com/product-detail/en/panasonic-electronic-components/ERJ-MP4MF9M0U/P19402TR-ND/6096731; Tolerance: 1%; PowerRating: 1W; Price: 0.1201; Device Package: 2512 (6432 Metric)
footprint STACKPOLE CSR2512
pins: 1, 2

## ERJ-MP4MF15MU
designator R?
RES SMD 0.015 OHM 1% 1W 2512; Manufacturer: Panasonic Electronic Components; Value: 0.015; TemperatureRange: -65C ~ 170C; TemperatureCoefficient: 75ppm/C; Part Number: ERJ-MP4MF15MU; PartId: 21253; Supplier 1: Digi-Key; Supplier Part Number 1: P19389TR-ND; ComponentLink1Description: Datasheet; ComponentLink1URL: https://industrial.panasonic.com/cdbs/www-data/pdf/RDA0000/AOA0000C263.pdf; ComponentLink2Description: Digi-Key Listing; ComponentLink2URL: https://www.digikey.com/product-detail/en/panasonic-electronic-components/ERJ-MP4MF15MU/P19389TR-ND/6096718; Tolerance: 1%; PowerRating: 1W; Price: 0.1201; Device Package: 2512 (6432 Metric)
footprint STACKPOLE CSR2512
pins: 1, 2

## ERJ-MP4MF22MU
designator R?
RES SMD 0.022 OHM 1% 1W 2512; Manufacturer: Panasonic Electronic Components; Value: 0.022; TemperatureRange: -65C ~ 170C; TemperatureCoefficient: 75ppm/C; Part Number: ERJ-MP4MF22MU; PartId: 21255; Supplier 1: Digi-Key; Supplier Part Number 1: P19391TR-ND; ComponentLink1Description: Datasheet; ComponentLink1URL: https://industrial.panasonic.com/cdbs/www-data/pdf/RDA0000/AOA0000C263.pdf; ComponentLink2Description: Digi-Key Listing; ComponentLink2URL: https://www.digikey.com/product-detail/en/panasonic-electronic-components/ERJ-MP4MF22MU/P19391TR-ND/6096720; Tolerance: 1%; PowerRating: 1W; Price: 0.1201; Device Package: 2512 (6432 Metric)
footprint STACKPOLE CSR2512
pins: 1, 2

## ERJ-MP4MF47MU
designator R?
RES SMD 0.047 OHM 1% 1W 2512; Manufacturer: Panasonic Electronic Components; Value: 0.047; TemperatureRange: -65C ~ 170C; TemperatureCoefficient: 75ppm/C; Part Number: ERJ-MP4MF47MU; PartId: 21257; Supplier 1: Digi-Key; Supplier Part Number 1: P19395TR-ND; ComponentLink1Description: Datasheet; ComponentLink1URL: https://industrial.panasonic.com/cdbs/www-data/pdf/RDA0000/AOA0000C263.pdf; ComponentLink2Description: Digi-Key Listing; ComponentLink2URL: https://www.digikey.com/product-detail/en/panasonic-electronic-components/ERJ-MP4MF47MU/P19395TR-ND/6096724; Tolerance: 1%; PowerRating: 1W; Price: 0.1201; Device Package: 2512 (6432 Metric)
footprint STACKPOLE CSR2512
pins: 1, 2

## ERJ-MP4PF1M0U
designator R?
RES SMD 0.001 OHM 1% 2W 2512; Manufacturer: Panasonic Electronic Components; Value: 0.001; TemperatureRange: -65C ~ 170C; TemperatureCoefficient: 75ppm/C; Part Number: ERJ-MP4PF1M0U; PartId: 21270; Supplier 1: Digi-Key; Supplier Part Number 1: P19405TR-ND; ComponentLink1Description: Datasheet; ComponentLink1URL: https://industrial.panasonic.com/cdbs/www-data/pdf/RDA0000/AOA0000C263.pdf; ComponentLink2Description: Digi-Key Listing; ComponentLink2URL: https://www.digikey.com/product-detail/en/panasonic-electronic-components/ERJ-MP4PF1M0U/P19405TR-ND/6096734; Tolerance: 1%; PowerRating: 2W; Price: 0.1335; Device Package: 2512 (6432 Metric)
footprint STACKPOLE CSR2512
pins: 1, 2

## ERJ-MP4QF1M0U
designator R?
RES SMD 0.001 OHM 1% 3W 2512; Manufacturer: Panasonic Electronic Components; Value: 0.001; TemperatureRange: -65C ~ 170C; TemperatureCoefficient: 75ppm/C; Part Number: ERJ-MP4QF1M0U; PartId: 21317; Supplier 1: Digi-Key; Supplier Part Number 1: P19416TR-ND; ComponentLink1Description: Datasheet; ComponentLink1URL: https://industrial.panasonic.com/cdbs/www-data/pdf/RDA0000/AOA0000C263.pdf; ComponentLink2Description: Digi-Key Listing; ComponentLink2URL: https://www.digikey.com/product-detail/en/panasonic-electronic-components/ERJ-MP4QF1M0U/P19416TR-ND/6096745; Tolerance: 1%; PowerRating: 3W; Price: 0.159; Device Package: 2512 (6432 Metric)
footprint STACKPOLE CSR2512
pins: 1, 2

## ERJ-MS4HF6M0U
designator R?
RES SMD 0.006 OHM 1% 3W 2512; Manufacturer: Panasonic Electronic Components; Value: 0.006; TemperatureRange: -65C ~ 170C; TemperatureCoefficient: 75ppm/C; Part Number: ERJ-MS4HF6M0U; PartId: 21443; Supplier 1: Digi-Key; Supplier Part Number 1: P17094TR-ND; ComponentLink1Description: Datasheet; ComponentLink1URL: https://industrial.panasonic.com/cdbs/www-data/pdf/RDA0000/AOA0000C266.pdf; ComponentLink2Description: Digi-Key Listing; ComponentLink2URL: https://www.digikey.com/product-detail/en/panasonic-electronic-components/ERJ-MS4HF6M0U/P17094TR-ND/5357982; Tolerance: 1%; PowerRating: 3W; Price: 0.2802; Device Package: 2512 (6432 Metric)
footprint STACKPOLE CSR2512
pins: 1, 2

## ERJ-MS4HF7M0U
designator R?
RES SMD 0.007 OHM 1% 2W 2512; Manufacturer: Panasonic Electronic Components; Value: 0.007; TemperatureRange: -65C ~ 170C; TemperatureCoefficient: 75ppm/C; Part Number: ERJ-MS4HF7M0U; PartId: 21418; Supplier 1: Digi-Key; Supplier Part Number 1: P17095TR-ND; ComponentLink1Description: Datasheet; ComponentLink1URL: https://industrial.panasonic.com/cdbs/www-data/pdf/RDA0000/AOA0000C266.pdf; ComponentLink2Description: Digi-Key Listing; ComponentLink2URL: https://www.digikey.com/product-detail/en/panasonic-electronic-components/ERJ-MS4HF7M0U/P17095TR-ND/5357983; Tolerance: 1%; PowerRating: 2W; Price: 0.2259; Device Package: 2512 (6432 Metric)
footprint STACKPOLE CSR2512
pins: 1, 2

## ERJ-MS4HF8M0U
designator R?
RES SMD 0.008 OHM 1% 2W 2512; Manufacturer: Panasonic Electronic Components; Value: 0.008; TemperatureRange: -65C ~ 170C; TemperatureCoefficient: 75ppm/C; Part Number: ERJ-MS4HF8M0U; PartId: 21419; Supplier 1: Digi-Key; Supplier Part Number 1: P17096TR-ND; ComponentLink1Description: Datasheet; ComponentLink1URL: https://industrial.panasonic.com/cdbs/www-data/pdf/RDA0000/AOA0000C266.pdf; ComponentLink2Description: Digi-Key Listing; ComponentLink2URL: https://www.digikey.com/product-detail/en/panasonic-electronic-components/ERJ-MS4HF8M0U/P17096TR-ND/5357984; Tolerance: 1%; PowerRating: 2W; Price: 0.2259; Device Package: 2512 (6432 Metric)
footprint STACKPOLE CSR2512
pins: 1, 2

## ERJ-MS4HF9M0U
designator R?
RES SMD 0.009 OHM 1% 2W 2512; Manufacturer: Panasonic Electronic Components; Value: 0.009; TemperatureRange: -65C ~ 170C; TemperatureCoefficient: 75ppm/C; Part Number: ERJ-MS4HF9M0U; PartId: 21420; Supplier 1: Digi-Key; Supplier Part Number 1: P17097TR-ND; ComponentLink1Description: Datasheet; ComponentLink1URL: https://industrial.panasonic.com/cdbs/www-data/pdf/RDA0000/AOA0000C266.pdf; ComponentLink2Description: Digi-Key Listing; ComponentLink2URL: https://www.digikey.com/product-detail/en/panasonic-electronic-components/ERJ-MS4HF9M0U/P17097TR-ND/5357985; Tolerance: 1%; PowerRating: 2W; Price: 0.2259; Device Package: 2512 (6432 Metric)
footprint STACKPOLE CSR2512
pins: 1, 2

## ERJ-MS4HF10MU
designator R?
RES SMD 0.01 OHM 1% 2W 2512; Manufacturer: Panasonic Electronic Components; Value: 0.01; TemperatureRange: -65C ~ 170C; TemperatureCoefficient: 75ppm/C; Part Number: ERJ-MS4HF10MU; PartId: 21421; Supplier 1: Digi-Key; Supplier Part Number 1: P17098TR-ND; ComponentLink1Description: Datasheet; ComponentLink1URL: https://industrial.panasonic.com/cdbs/www-data/pdf/RDA0000/AOA0000C266.pdf; ComponentLink2Description: Digi-Key Listing; ComponentLink2URL: https://www.digikey.com/product-detail/en/panasonic-electronic-components/ERJ-MS4HF10MU/P17098TR-ND/5357986; Tolerance: 1%; PowerRating: 2W; Price: 0.2259; Device Package: 2512 (6432 Metric)
footprint STACKPOLE CSR2512
pins: 1, 2

## ERJ-MS4SF3M0U
designator R?
RES SMD 0.003 OHM 1% 3W 2512; Manufacturer: Panasonic Electronic Components; Value: 0.003; TemperatureRange: -65C ~ 170C; TemperatureCoefficient: 75ppm/C; Part Number: ERJ-MS4SF3M0U; PartId: 21445; Supplier 1: Digi-Key; Supplier Part Number 1: P17091TR-ND; ComponentLink1Description: Datasheet; ComponentLink1URL: https://industrial.panasonic.com/cdbs/www-data/pdf/RDA0000/AOA0000C266.pdf; ComponentLink2Description: Digi-Key Listing; ComponentLink2URL: https://www.digikey.com/product-detail/en/panasonic-electronic-components/ERJ-MS4SF3M0U/P17091TR-ND/5357979; Tolerance: 1%; PowerRating: 3W; Price: 0.2802; Device Package: 2512 (6432 Metric)
footprint STACKPOLE CSR2512
pins: 1, 2

## ERJ-MS4SF4M0U
designator R?
RES SMD 0.004 OHM 1% 3W 2512; Manufacturer: Panasonic Electronic Components; Value: 0.004; TemperatureRange: -65C ~ 170C; TemperatureCoefficient: 75ppm/C; Part Number: ERJ-MS4SF4M0U; PartId: 21444; Supplier 1: Digi-Key; Supplier Part Number 1: P17092TR-ND; ComponentLink1Description: Datasheet; ComponentLink1URL: https://industrial.panasonic.com/cdbs/www-data/pdf/RDA0000/AOA0000C266.pdf; ComponentLink2Description: Digi-Key Listing; ComponentLink2URL: https://www.digikey.com/product-detail/en/panasonic-electronic-components/ERJ-MS4SF4M0U/P17092TR-ND/5357980; Tolerance: 1%; PowerRating: 3W; Price: 0.2802; Device Package: 2512 (6432 Metric)
footprint STACKPOLE CSR2512
pins: 1, 2

## HCS2512FT1L00
designator R?
RES SMD 0.001 OHM 1% 3W 2512; Manufacturer: Stackpole Electronics Inc.; Value: 0.001; TemperatureRange: -55C ~ 170C; TemperatureCoefficient: 100ppm/C; Part Number: HCS2512FT1L00; PartId: 21467; Supplier 1: Digi-Key; Supplier Part Number 1: HCS2512FT1L00TR-ND; ComponentLink1Description: Datasheet; ComponentLink1URL: http://www.seielect.com/catalog/sei-hcs.pdf; ComponentLink2Description: Digi-Key Listing; ComponentLink2URL: https://www.digikey.com/product-detail/en/stackpole-electronics-inc/HCS2512FT1L00/HCS2512FT1L00TR-ND/4517522; Tolerance: 1%; PowerRating: 3W; Price: 0.39; Device Package: 2512 (6432 Metric)
footprint STACKPOLE CSR2512
pins: 1, 2

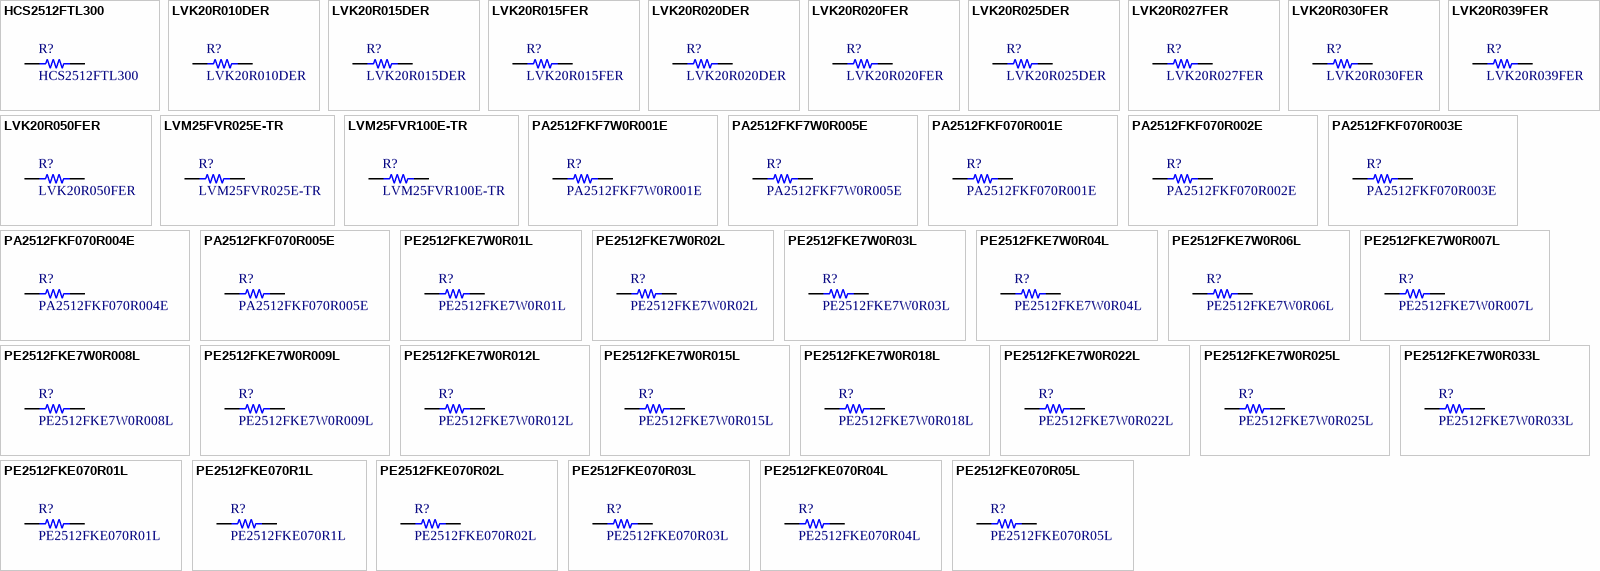
[diagram p14: symbols HCS2512FTL300 to PE2512FKE070R05L]

## HCS2512FTL300
designator R?
RES SMD 0.0003 OHM 1% 3W 2512; Manufacturer: Stackpole Electronics Inc.; Value: 0.0003; TemperatureRange: -55C ~ 170C; TemperatureCoefficient: 150ppm/C; Part Number: HCS2512FTL300; PartId: 21471; Supplier 1: Digi-Key; Supplier Part Number 1: HCS2512FTL300TR-ND; ComponentLink1Description: Datasheet; ComponentLink1URL: http://www.seielect.com/catalog/sei-hcs.pdf; ComponentLink2Description: Digi-Key Listing; ComponentLink2URL: https://www.digikey.com/product-detail/en/stackpole-electronics-inc/HCS2512FTL300/HCS2512FTL300TR-ND/4517520; Tolerance: 1%; PowerRating: 3W; Price: 0.429; Device Package: 2512 (6432 Metric)
footprint STACKPOLE CSR2512
pins: 1, 2

## LVK20R010DER
designator R?
RES SMD 0.01 OHM 0.5% 3/4W 2010; Manufacturer: Ohmite; Value: 0.01; TemperatureRange: -40C ~ 125C; TemperatureCoefficient: 50ppm/C; PowerRating: 0.75W, 3/4W; Part Number: LVK20R010DER; PartId: 21594; Supplier 1: Digi-Key; Supplier Part Number 1: LVK20R010DERTR-ND; ComponentLink1Description: Datasheet; ComponentLink1URL: http://www.ohmite.com/cat/res_lvk.pdf; ComponentLink2Description: Digi-Key Listing; ComponentLink2URL: https://www.digikey.com/product-detail/en/ohmite/LVK20R010DER/LVK20R010DERTR-ND/1632741; Tolerance: 0.5%; Price: 0.408; Device Package: 2010 (5025 Metric)
footprint STACKPOLE CSR2010
pins: 1, 2

## LVK20R015DER
designator R?
RES SMD 0.015 OHM 0.5% 3/4W 2010; Manufacturer: Ohmite; Value: 0.015; TemperatureRange: -40C ~ 125C; TemperatureCoefficient: 50ppm/C; PowerRating: 0.75W, 3/4W; Part Number: LVK20R015DER; PartId: 21595; Supplier 1: Digi-Key; Supplier Part Number 1: LVK20R015DERTR-ND; ComponentLink1Description: Datasheet; ComponentLink1URL: http://www.ohmite.com/cat/res_lvk.pdf; ComponentLink2Description: Digi-Key Listing; ComponentLink2URL: https://www.digikey.com/product-detail/en/ohmite/LVK20R015DER/LVK20R015DERTR-ND/5125245; Tolerance: 0.5%; Price: 0.408; Device Package: 2010 (5025 Metric)
footprint STACKPOLE CSR2010
pins: 1, 2

## LVK20R015FER
designator R?
RES SMD 0.015 OHM 1% 3/4W 2010; Manufacturer: Ohmite; Value: 0.015; TemperatureRange: -40C ~ 125C; TemperatureCoefficient: 50ppm/C; PowerRating: 0.75W, 3/4W; Part Number: LVK20R015FER; PartId: 21589; Supplier 1: Digi-Key; Supplier Part Number 1: LVK20R015FERTR-ND; ComponentLink1Description: Datasheet; ComponentLink1URL: http://www.ohmite.com/cat/res_lvk.pdf; ComponentLink2Description: Digi-Key Listing; ComponentLink2URL: https://www.digikey.com/product-detail/en/ohmite/LVK20R015FER/LVK20R015FERTR-ND/1632735; Tolerance: 1%; Price: 0.36; Device Package: 2010 (5025 Metric)
footprint STACKPOLE CSR2010
pins: 1, 2

## LVK20R020DER
designator R?
RES SMD 0.02 OHM 0.5% 3/4W 2010; Manufacturer: Ohmite; Value: 0.02; TemperatureRange: -40C ~ 125C; TemperatureCoefficient: 50ppm/C; PowerRating: 0.75W, 3/4W; Part Number: LVK20R020DER; PartId: 21593; Supplier 1: Digi-Key; Supplier Part Number 1: LVK20R020DERTR-ND; ComponentLink1Description: Datasheet; ComponentLink1URL: http://www.ohmite.com/cat/res_lvk.pdf; ComponentLink2Description: Digi-Key Listing; ComponentLink2URL: https://www.digikey.com/product-detail/en/ohmite/LVK20R020DER/LVK20R020DERTR-ND/1632742; Tolerance: 0.5%; Price: 0.408; Device Package: 2010 (5025 Metric)
footprint STACKPOLE CSR2010
pins: 1, 2

## LVK20R020FER
designator R?
RES SMD 0.02 OHM 1% 3/4W 2010; Manufacturer: Ohmite; Value: 0.02; TemperatureRange: -40C ~ 125C; TemperatureCoefficient: 50ppm/C; PowerRating: 0.75W, 3/4W; Part Number: LVK20R020FER; PartId: 21588; Supplier 1: Digi-Key; Supplier Part Number 1: LVK20R020FERTR-ND; ComponentLink1Description: Datasheet; ComponentLink1URL: http://www.ohmite.com/cat/res_lvk.pdf; ComponentLink2Description: Digi-Key Listing; ComponentLink2URL: https://www.digikey.com/product-detail/en/ohmite/LVK20R020FER/LVK20R020FERTR-ND/1632736; Tolerance: 1%; Price: 0.36; Device Package: 2010 (5025 Metric)
footprint STACKPOLE CSR2010
pins: 1, 2

## LVK20R025DER
designator R?
RES SMD 0.025 OHM 0.5% 3/4W 2010; Manufacturer: Ohmite; Value: 0.025; TemperatureRange: -40C ~ 125C; TemperatureCoefficient: 50ppm/C; PowerRating: 0.75W, 3/4W; Part Number: LVK20R025DER; PartId: 21596; Supplier 1: Digi-Key; Supplier Part Number 1: LVK20R025DERTR-ND; ComponentLink1Description: Datasheet; ComponentLink1URL: http://www.ohmite.com/cat/res_lvk.pdf; ComponentLink2Description: Digi-Key Listing; ComponentLink2URL: https://www.digikey.com/product-detail/en/ohmite/LVK20R025DER/LVK20R025DERTR-ND/5125246; Tolerance: 0.5%; Price: 0.408; Device Package: 2010 (5025 Metric)
footprint STACKPOLE CSR2010
pins: 1, 2

## LVK20R027FER
designator R?
RES SMD 0.027 OHM 1% 3/4W 2010; Manufacturer: Ohmite; Value: 0.027; TemperatureRange: -40C ~ 125C; TemperatureCoefficient: 50ppm/C; PowerRating: 0.75W, 3/4W; Part Number: LVK20R027FER; PartId: 21590; Supplier 1: Digi-Key; Supplier Part Number 1: LVK20R027FERTR-ND; ComponentLink1Description: Datasheet; ComponentLink1URL: http://www.ohmite.com/cat/res_lvk.pdf; ComponentLink2Description: Digi-Key Listing; ComponentLink2URL: https://www.digikey.com/product-detail/en/ohmite/LVK20R027FER/LVK20R027FERTR-ND/1632737; Tolerance: 1%; Price: 0.36; Device Package: 2010 (5025 Metric)
footprint STACKPOLE CSR2010
pins: 1, 2